# Altium integrated library lm2596.IntLib: 1 symbol
Pins are listed as number, name and electrical type; pins without a type are passive.

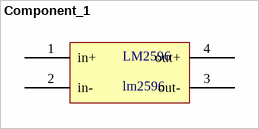
[diagram p0: symbol Component_1]

## Component_1
designator LM2596, comment lm2596
footprint PCBComponent_1
pins: 1 in+, 2 in-, 3 out-, 4 out+